# EAGLE library part ADUM3190 (library FSAE Electric (Alexander Ray's conflicted copy 2016-04-02))
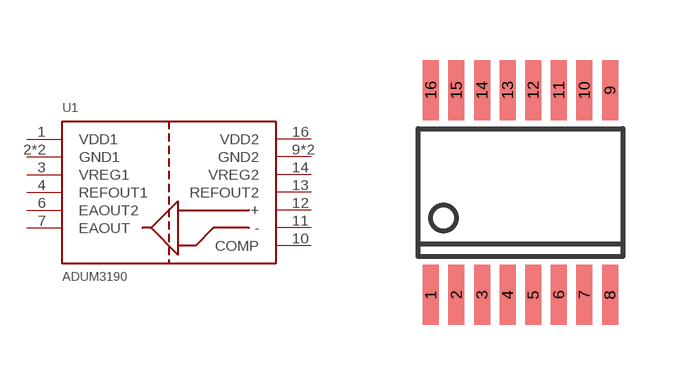
[diagram p87: symbol with the pads of QSOP-16; footprint QSOP-16]

Designator prefix U1

## ADUM3190 (PARTNO: 584-ADUM3190SRQZ-RL7)  [QSOP-16]
1  VDD1
2  GND1
3  VREG1
4  REFOUT1
6  EAOUT2
7  EAOUT
8  GND1
9  GND2
10  COMP
11  -
12  +
13  REFOUT2
14  VREG2
15  GND2
16  VDD2

## Footprint QSOP-16 (pad centres in mm)
smd 0.4 x 1.5: 1 -2.24,-2.56; 2 -1.6,-2.56; 3 -0.96,-2.56; 4 -0.32,-2.56; 5 0.32,-2.56; 6 0.96,-2.56; 7 1.6,-2.56; 8 2.24,-2.56; 9 2.24,2.56; 10 1.6,2.56; 11 0.96,2.56; 12 0.32,2.56; 13 -0.32,2.56; 14 -0.96,2.56; 15 -1.6,2.56; 16 -2.24,2.56